# Altium schematic symbol library BFP650F.SchLib: 1 symbol
Pins are listed as number, name and electrical type; pins without a type are passive.

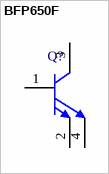
[diagram p0: symbol BFP650F]

## BFP650F
designator Q?
NPN Silicon Germanium RF Transistor, 4 V VCEO, 150 mA IC, 21.5 dB Gmax, TSFP-4-1, Green; Manufacturer: Infineon; PartNumber: BFP650F; Gmax (typ): 21.5 dB; Green: yes; Group: SiGe; IC (max): 150 mA; NFmin (typ): 0.8 dB; Ptot (max): 500.0 mW; VCEO (max): 4 V; DatasheetVersion: Aug-2007; PackageReference: TSFP-4-1; PackageDescription: 4-Pin Thin Small Flat Package, 0.8 x 1.4 mm Body, 0.5 mm Pitch; Supplier 1: Mouser; Supplier Part Number 1: N/A; Halogen-free: yes; Mounting Technology: Surface Mount; ComponentLink1Description: Manufacturer URL; ComponentLink1URL: http://www.infineon.com/; ComponentLink2Description: Datasheet; ComponentLink2URL: http://www.infineon.com/dgdl/bfp650f.pdf?folderId=db3a30431400ef68011425b291f205c5&fileId=db3a30431441fb5d01149297e271101c&location=en.Products.RF.RF_Transistors_.High_Linearity_Si-_and_SiGe_C-Transistors_for_use_up_to_6_GHz.DATASHEET.bfp650f.pdf; ComponentLink3Description: Package Specification; ComponentLink3URL: http://www.infineon.com/dgdl/TSFP-4-1%2C-2-Package_Overview.pdf?folderId=db3a30431936bc4b011953b7d203683d&fileId=db3a30431936bc4b011953c249663734
footprint INF-TSFP-4-1_V (SOP-Flat, Body 0.8x1.4 mm, Pitch 1 mm)
pins: 1 B, 2 E, 3 C, 4 E